# Altium footprint library WA-SMSI.PcbLib: 89 footprints (part 6 of 6)
Each footprint in its own frame and in the unit in brackets; x right, y up, seen from the top. Pads: shape width x height; smd on the part's side, far side on the other; paste and mask are expansions set on the pad; w line width, h text height; cw(c..) or ccw(c..) is an arc to the next point about the centre after c.
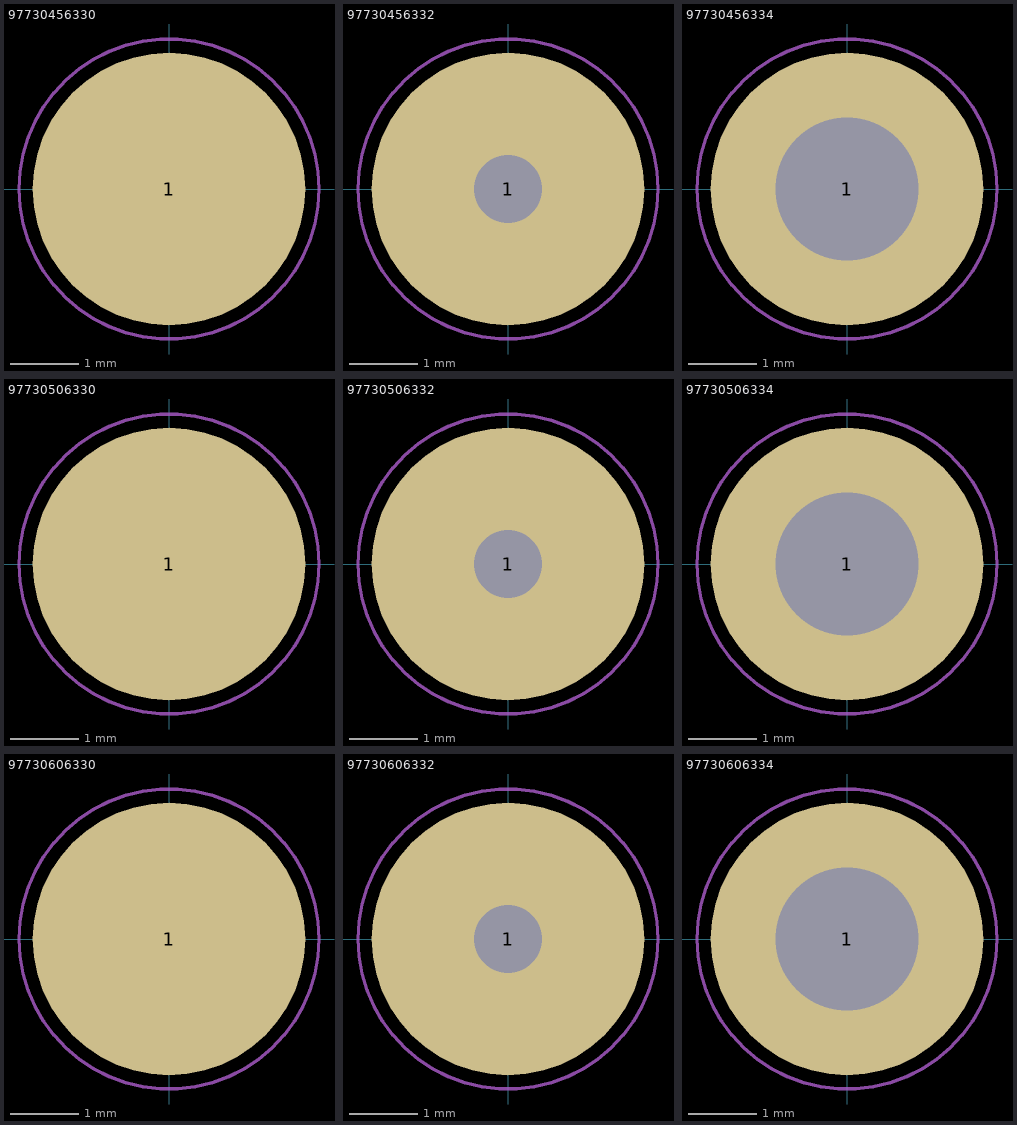
[diagram p5: the footprints below, top view; thin cyan lines are the x and y axes]

## 97730456330 [mm] "SMT Steel Spacer with internal Thread M1.6 Bottom closed, height 4.5mm"
height 4.5
pads (1):
  round 4 smd paste-2539.97: 1(0,0)
Top Paste:
  region: -1.894,0.15 -0.15,0.15 -0.15,1.894 -0.318,1.881 -0.643,1.796 -0.949,1.655 -1.224,1.463 -1.462,1.225 -1.655,0.949 -1.796,0.643 -1.881,0.318 -1.894,0.15
  region: -0.15,-1.894 -0.15,-0.15 -1.894,-0.15 -1.881,-0.318 -1.796,-0.643 -1.655,-0.949 -1.463,-1.224 -1.225,-1.462 -0.949,-1.655 -0.643,-1.796 -0.318,-1.881 -0.15,-1.894
  region: 1.894,-0.15 0.15,-0.15 0.15,-1.894 0.318,-1.881 0.643,-1.796 0.949,-1.655 1.224,-1.463 1.462,-1.225 1.655,-0.949 1.796,-0.643 1.881,-0.318 1.894,-0.15
  region: 0.15,1.894 0.15,0.15 1.894,0.15 1.881,0.318 1.796,0.643 1.655,0.949 1.463,1.224 1.225,1.462 0.949,1.655 0.643,1.796 0.318,1.881 0.15,1.894
Top Assembly:
  circle w0.1: c0,0 r1.65
Top Designator:
  text ".Designator" at -3.647,-0.357 h1
Top 3D Body:
  circle w0.1: c0,0 r1.65
Top Courtyard:
  circle w0.05: c0,0 r2.2
Top Component Center:
  lines w0.1: -0.5,0 0.5,0 ; 0,-0.5 0,0.5
3D body "97730456330.stp": height 4.5, standoff 0, extent -1.65,-1.65 1.65,1.65

## 97730456332 [mm] "SMT Steel Spacer with internal Thread M1.6 with Pin, height 4.5mm"
height 4.5
pads (1):
  round 4 / inner rect 0x0 / far side rect 0x0 hole 1 unplated: 1(0,0)
Top Paste:
  region: 0.55,-1.819 0.744,-1.76 1.099,-1.563 1.405,-1.295 1.647,-0.969 1.814,-0.6 1.9,-0.203 1.9,0.203 1.814,0.6 1.647,0.969 1.405,1.295 1.099,1.563 0.744,1.76 0.55,1.819 0.55,0.24 0.572,0.182 0.597,0.062 0.597,-0.062 0.572,-0.182 0.55,-0.24
  region: -0.55,-1.819 -0.744,-1.76 -1.099,-1.563 -1.405,-1.295 -1.647,-0.969 -1.814,-0.6 -1.9,-0.203 -1.9,0.203 -1.814,0.6 -1.647,0.969 -1.405,1.295 -1.099,1.563 -0.744,1.76 -0.55,1.819 -0.55,0.24 -0.572,0.182 -0.597,0.062 -0.597,-0.062 -0.572,-0.182 -0.55,-0.24
Top Assembly:
  circle w0.1: c0,0 r1.65
Top Designator:
  text ".Designator" at -3.647,-0.357 h1
Top 3D Body:
  circle w0.1: c0,0 r1.65
Top Courtyard:
  circle w0.05: c0,0 r2.2
Top Component Center:
  lines w0.1: -0.5,0 0.5,0 ; 0,-0.5 0,0.5
3D body "97730456332.stp": height 4.5, standoff -0.5, extent -1.65,-1.649 1.65,1.649

## 97730456334 [mm] "SMT Steel Spacer with internal Thread M1.6, height 4.5mm"
height 4.5
pads (1):
  round 4 / inner rect 0x0 / far side rect 0x0 hole 2.1 unplated: 1(0,0)
Top Paste:
  region: 0.2,1.889 0.361,1.872 0.673,1.784 0.965,1.645 1.229,1.458 1.458,1.229 1.645,0.965 1.784,0.673 1.872,0.361 1.889,0.2 1.082,0.2 1.039,0.36 0.886,0.652 0.652,0.886 0.36,1.039 0.2,1.082
  region: 1.889,-0.2 1.872,-0.361 1.784,-0.673 1.645,-0.965 1.458,-1.229 1.229,-1.458 0.965,-1.645 0.673,-1.784 0.361,-1.872 0.2,-1.889 0.2,-1.082 0.36,-1.039 0.652,-0.886 0.886,-0.652 1.039,-0.36 1.082,-0.2
  region: -0.2,-1.889 -0.361,-1.872 -0.673,-1.784 -0.965,-1.645 -1.229,-1.458 -1.458,-1.229 -1.645,-0.965 -1.784,-0.673 -1.872,-0.361 -1.889,-0.2 -1.082,-0.2 -1.039,-0.36 -0.886,-0.652 -0.652,-0.886 -0.36,-1.039 -0.2,-1.082
  region: -1.889,0.2 -1.872,0.361 -1.784,0.673 -1.645,0.965 -1.458,1.229 -1.229,1.458 -0.965,1.645 -0.673,1.784 -0.361,1.872 -0.2,1.889 -0.2,1.082 -0.36,1.039 -0.652,0.886 -0.886,0.652 -1.039,0.36 -1.082,0.2
Top Assembly:
  circle w0.1: c0,0 r1.65
Top Designator:
  text ".Designator" at -3.647,-0.357 h1
Top 3D Body:
  circle w0.1: c0,0 r1.65
Top Courtyard:
  circle w0.05: c0,0 r2.2
Top Component Center:
  lines w0.1: -0.5,0 0.5,0 ; 0,-0.5 0,0.5
3D body "97730456334.stp": height 4.5, standoff -0.7, extent -1.65,-1.649 1.65,1.649

## 97730506330 [mm] "SMT Steel Spacer with internal Thread M1.6 Bottom closed, height 5mm"
height 5
pads (1):
  round 4 smd paste-2539.97: 1(0,0)
Top Paste:
  region: -1.894,0.15 -0.15,0.15 -0.15,1.894 -0.318,1.881 -0.643,1.796 -0.949,1.655 -1.224,1.463 -1.462,1.225 -1.655,0.949 -1.796,0.643 -1.881,0.318 -1.894,0.15
  region: -0.15,-1.894 -0.15,-0.15 -1.894,-0.15 -1.881,-0.318 -1.796,-0.643 -1.655,-0.949 -1.463,-1.224 -1.225,-1.462 -0.949,-1.655 -0.643,-1.796 -0.318,-1.881 -0.15,-1.894
  region: 1.894,-0.15 0.15,-0.15 0.15,-1.894 0.318,-1.881 0.643,-1.796 0.949,-1.655 1.224,-1.463 1.462,-1.225 1.655,-0.949 1.796,-0.643 1.881,-0.318 1.894,-0.15
  region: 0.15,1.894 0.15,0.15 1.894,0.15 1.881,0.318 1.796,0.643 1.655,0.949 1.463,1.224 1.225,1.462 0.949,1.655 0.643,1.796 0.318,1.881 0.15,1.894
Top Assembly:
  circle w0.1: c0,0 r1.65
Top Designator:
  text ".Designator" at -3.647,-0.357 h1
Top 3D Body:
  circle w0.1: c0,0 r1.65
Top Courtyard:
  circle w0.05: c0,0 r2.2
Top Component Center:
  lines w0.1: -0.5,0 0.5,0 ; 0,-0.5 0,0.5
3D body "97730506330.stp": height 5, standoff 0, extent -1.65,-1.649 1.65,1.649

## 97730506332 [mm] "SMT Steel Spacer with internal Thread M1.6 with Pin, height 5mm"
height 5
pads (1):
  round 4 / inner rect 0x0 / far side rect 0x0 hole 1 unplated: 1(0,0)
Top Paste:
  region: -0.55,-1.819 -0.744,-1.76 -1.099,-1.563 -1.405,-1.295 -1.647,-0.969 -1.814,-0.6 -1.9,-0.203 -1.9,0.203 -1.814,0.6 -1.647,0.969 -1.405,1.295 -1.099,1.563 -0.744,1.76 -0.55,1.819 -0.55,0.24 -0.572,0.182 -0.597,0.062 -0.597,-0.062 -0.572,-0.182 -0.55,-0.24
  region: 0.55,-1.819 0.744,-1.76 1.099,-1.563 1.405,-1.295 1.647,-0.969 1.814,-0.6 1.9,-0.203 1.9,0.203 1.814,0.6 1.647,0.969 1.405,1.295 1.099,1.563 0.744,1.76 0.55,1.819 0.55,0.24 0.572,0.182 0.597,0.062 0.597,-0.062 0.572,-0.182 0.55,-0.24
Top Assembly:
  circle w0.1: c0,0 r1.65
Top Designator:
  text ".Designator" at -3.647,-0.357 h1
Top 3D Body:
  circle w0.1: c0,0 r1.65
Top Courtyard:
  circle w0.05: c0,0 r2.2
Top Component Center:
  lines w0.1: -0.5,0 0.5,0 ; 0,-0.5 0,0.5
3D body "97730506332.stp": height 5, standoff -0.5, extent -1.65,-1.65 1.65,1.65

## 97730506334 [mm] "SMT Steel Spacer with internal Thread M1.6, height 5mm"
height 5
pads (1):
  round 4 / inner rect 0x0 / far side rect 0x0 hole 2.1 unplated: 1(0,0)
Top Paste:
  region: 0.2,1.889 0.361,1.872 0.673,1.784 0.965,1.645 1.229,1.458 1.458,1.229 1.645,0.965 1.784,0.673 1.872,0.361 1.889,0.2 1.082,0.2 1.039,0.36 0.886,0.652 0.652,0.886 0.36,1.039 0.2,1.082
  region: 1.889,-0.2 1.872,-0.361 1.784,-0.673 1.645,-0.965 1.458,-1.229 1.229,-1.458 0.965,-1.645 0.673,-1.784 0.361,-1.872 0.2,-1.889 0.2,-1.082 0.36,-1.039 0.652,-0.886 0.886,-0.652 1.039,-0.36 1.082,-0.2
  region: -0.2,-1.889 -0.361,-1.872 -0.673,-1.784 -0.965,-1.645 -1.229,-1.458 -1.458,-1.229 -1.645,-0.965 -1.784,-0.673 -1.872,-0.361 -1.889,-0.2 -1.082,-0.2 -1.039,-0.36 -0.886,-0.652 -0.652,-0.886 -0.36,-1.039 -0.2,-1.082
  region: -1.889,0.2 -1.872,0.361 -1.784,0.673 -1.645,0.965 -1.458,1.229 -1.229,1.458 -0.965,1.645 -0.673,1.784 -0.361,1.872 -0.2,1.889 -0.2,1.082 -0.36,1.039 -0.652,0.886 -0.886,0.652 -1.039,0.36 -1.082,0.2
Top Assembly:
  circle w0.1: c0,0 r1.65
Top Designator:
  text ".Designator" at -3.647,-0.357 h1
Top 3D Body:
  circle w0.1: c0,0 r1.65
Top Courtyard:
  circle w0.05: c0,0 r2.2
Top Component Center:
  lines w0.1: -0.5,0 0.5,0 ; 0,-0.5 0,0.5
3D body "97730506334.stp": height 5, standoff -0.7, extent -1.65,-1.649 1.65,1.649

## 97730606330 [mm] "SMT Steel Spacer with internal Thread M1.6 Bottom closed, height 6mm"
height 6
pads (1):
  round 4 smd paste-2539.97: 1(0,0)
Top Paste:
  region: -1.894,0.15 -0.15,0.15 -0.15,1.894 -0.318,1.881 -0.643,1.796 -0.949,1.655 -1.224,1.463 -1.462,1.225 -1.655,0.949 -1.796,0.643 -1.881,0.318 -1.894,0.15
  region: -0.15,-1.894 -0.15,-0.15 -1.894,-0.15 -1.881,-0.318 -1.796,-0.643 -1.655,-0.949 -1.463,-1.224 -1.225,-1.462 -0.949,-1.655 -0.643,-1.796 -0.318,-1.881 -0.15,-1.894
  region: 1.894,-0.15 0.15,-0.15 0.15,-1.894 0.318,-1.881 0.643,-1.796 0.949,-1.655 1.224,-1.463 1.462,-1.225 1.655,-0.949 1.796,-0.643 1.881,-0.318 1.894,-0.15
  region: 0.15,1.894 0.15,0.15 1.894,0.15 1.881,0.318 1.796,0.643 1.655,0.949 1.463,1.224 1.225,1.462 0.949,1.655 0.643,1.796 0.318,1.881 0.15,1.894
Top Assembly:
  circle w0.1: c0,0 r1.65
Top Designator:
  text ".Designator" at -3.647,-0.357 h1
Top 3D Body:
  circle w0.1: c0,0 r1.65
Top Courtyard:
  circle w0.05: c0,0 r2.2
Top Component Center:
  lines w0.1: -0.5,0 0.5,0 ; 0,-0.5 0,0.5
3D body "97730606330.stp": height 6, standoff 0, extent -1.65,-1.65 1.65,1.65

## 97730606332 [mm] "SMT Steel Spacer with internal Thread M1.6 with Pin, height 6mm"
height 6
pads (1):
  round 4 / inner rect 0x0 / far side rect 0x0 hole 1 unplated: 1(0,0)
Top Paste:
  region: -0.55,-1.819 -0.744,-1.76 -1.099,-1.563 -1.405,-1.295 -1.647,-0.969 -1.814,-0.6 -1.9,-0.203 -1.9,0.203 -1.814,0.6 -1.647,0.969 -1.405,1.295 -1.099,1.563 -0.744,1.76 -0.55,1.819 -0.55,0.24 -0.572,0.182 -0.597,0.062 -0.597,-0.062 -0.572,-0.182 -0.55,-0.24
  region: 0.55,-1.819 0.744,-1.76 1.099,-1.563 1.405,-1.295 1.647,-0.969 1.814,-0.6 1.9,-0.203 1.9,0.203 1.814,0.6 1.647,0.969 1.405,1.295 1.099,1.563 0.744,1.76 0.55,1.819 0.55,0.24 0.572,0.182 0.597,0.062 0.597,-0.062 0.572,-0.182 0.55,-0.24
Top Assembly:
  circle w0.1: c0,0 r1.65
Top Designator:
  text ".Designator" at -3.647,-0.357 h1
Top 3D Body:
  circle w0.1: c0,0 r1.65
Top Courtyard:
  circle w0.05: c0,0 r2.2
Top Component Center:
  lines w0.1: -0.5,0 0.5,0 ; 0,-0.5 0,0.5
3D body "97730606332.stp": height 6, standoff -0.5, extent -1.65,-1.65 1.65,1.65

## 97730606334 [mm] "SMT Steel Spacer with internal Thread M1.6, height 6mm"
height 6
pads (1):
  round 4 / inner rect 0x0 / far side rect 0x0 hole 2.1 unplated: 1(0,0)
Top Paste:
  region: 0.2,1.889 0.361,1.872 0.673,1.784 0.965,1.645 1.229,1.458 1.458,1.229 1.645,0.965 1.784,0.673 1.872,0.361 1.889,0.2 1.082,0.2 1.039,0.36 0.886,0.652 0.652,0.886 0.36,1.039 0.2,1.082
  region: 1.889,-0.2 1.872,-0.361 1.784,-0.673 1.645,-0.965 1.458,-1.229 1.229,-1.458 0.965,-1.645 0.673,-1.784 0.361,-1.872 0.2,-1.889 0.2,-1.082 0.36,-1.039 0.652,-0.886 0.886,-0.652 1.039,-0.36 1.082,-0.2
  region: -0.2,-1.889 -0.361,-1.872 -0.673,-1.784 -0.965,-1.645 -1.229,-1.458 -1.458,-1.229 -1.645,-0.965 -1.784,-0.673 -1.872,-0.361 -1.889,-0.2 -1.082,-0.2 -1.039,-0.36 -0.886,-0.652 -0.652,-0.886 -0.36,-1.039 -0.2,-1.082
  region: -1.889,0.2 -1.872,0.361 -1.784,0.673 -1.645,0.965 -1.458,1.229 -1.229,1.458 -0.965,1.645 -0.673,1.784 -0.361,1.872 -0.2,1.889 -0.2,1.082 -0.36,1.039 -0.652,0.886 -0.886,0.652 -1.039,0.36 -1.082,0.2
Top Assembly:
  circle w0.1: c0,0 r1.65
Top Designator:
  text ".Designator" at -3.647,-0.357 h1
Top 3D Body:
  circle w0.1: c0,0 r1.65
Top Courtyard:
  circle w0.05: c0,0 r2.2
Top Component Center:
  lines w0.1: -0.5,0 0.5,0 ; 0,-0.5 0,0.5
3D body "97730606334.stp": height 6, standoff -0.7, extent -1.65,-1.649 1.65,1.649